# Altium footprint library 61300811021.PcbLib: 1 footprints
Each footprint in its own frame and in the unit in brackets; x right, y up, seen from the top. Pads: shape width x height; smd on the part's side, far side on the other; paste and mask are expansions set on the pad; w line width, h text height; cw(c..) or ccw(c..) is an arc to the next point about the centre after c.
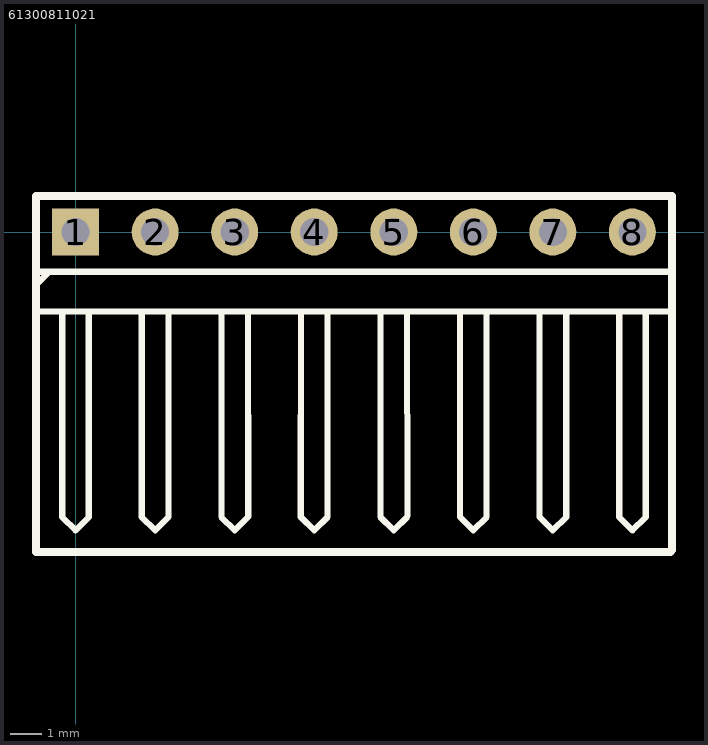
[diagram p0: the footprint, top view; thin cyan lines are the x and y axes]

## 61300811021 [mm] "Connector; Header; 8 Position; Right Angle"
pads (8):
  rect 1.5x1.5 hole 0.9: 1(0,0)
  round 1.5 hole 0.9: 2(2.54,0) 3(5.08,0) 4(7.62,0) 5(10.16,0) 6(12.7,0) 7(15.24,0) 8(17.78,0)
Top Overlay:
  lines w0.2: -1.27,-1.693 -0.847,-1.27 ; -0.423,-2.54 -0.423,-9.102 0,-9.525 0.423,-9.102 ; 0.418,-9.057 0.418,-2.54 ; 2.117,-2.54 2.117,-9.102 2.54,-9.525 2.963,-9.102 ; 2.963,-9.077 2.963,-2.54 ; 4.657,-2.54 4.657,-9.102 5.08,-9.525 5.503,-9.102 ; 5.503,-2.54 5.511,-9.087 ; 7.194,-9.101 7.197,-2.54 ; 7.197,-9.102 7.62,-9.525 8.043,-9.102 ; 8.043,-2.54 8.046,-9.09 ; 9.735,-9.082 9.737,-2.54 ; 9.737,-9.102 10.16,-9.525 10.583,-9.102 ; 10.583,-2.54 10.598,-9.07 ; 12.277,-9.102 12.7,-9.525 13.123,-9.102 ; 12.277,-9.085 12.277,-2.54 ; 13.123,-9.092 13.123,-2.54 ; 14.817,-9.102 15.24,-9.525 15.663,-9.102 ; 14.817,-9.086 14.817,-2.54 ; 15.663,-9.056 15.663,-2.54 ; 17.357,-9.102 17.78,-9.525 18.203,-9.102 ; 17.357,-9.08 17.357,-2.54 ; 18.203,-9.086 18.203,-2.54 ; -1.27,-2.54 19.05,-2.54 19.05,-1.27 -1.27,-1.27 -1.27,-2.54
  lines w0.254: -1.27,-10.21 -1.27,-10.163 -1.27,1.143 19.05,1.143 19.05,-10.16 19,-10.21 -1.27,-10.21
3D body "61300811021_Downloads_STP_61300811021_rev1.stp": height 2.55, standoff -2.99, extent -1.27,-10.064 19.05,0.296